# EAGLE library part Q_INA28 (library MRDT-2014-All)
10Khz Bidirectional Current Sense Amplifier
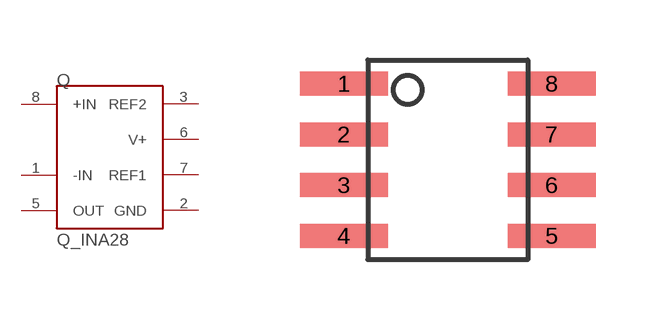
[diagram p20: symbol with the pads of SOIC8; footprint SOIC8]

Designator prefix Q

## Q_INA28  [SOIC8]
1  -IN
2  GND
3  REF2
5  OUT
6  V+
7  REF1
8  +IN

## Footprint SOIC8 (pad centres in mm)
smd 2.2 x 0.6: 1 -2.6,1.905; 2 -2.6,0.635; 3 -2.6,-0.635; 4 -2.6,-1.905; 5 2.6,-1.905; 6 2.6,-0.635; 7 2.6,0.635; 8 2.6,1.905